# Altium schematic symbol library ARCOM_Inductors.SchLib: 129 symbols (part 1 of 2)
Pins are listed as number, name and electrical type; pins without a type are passive.

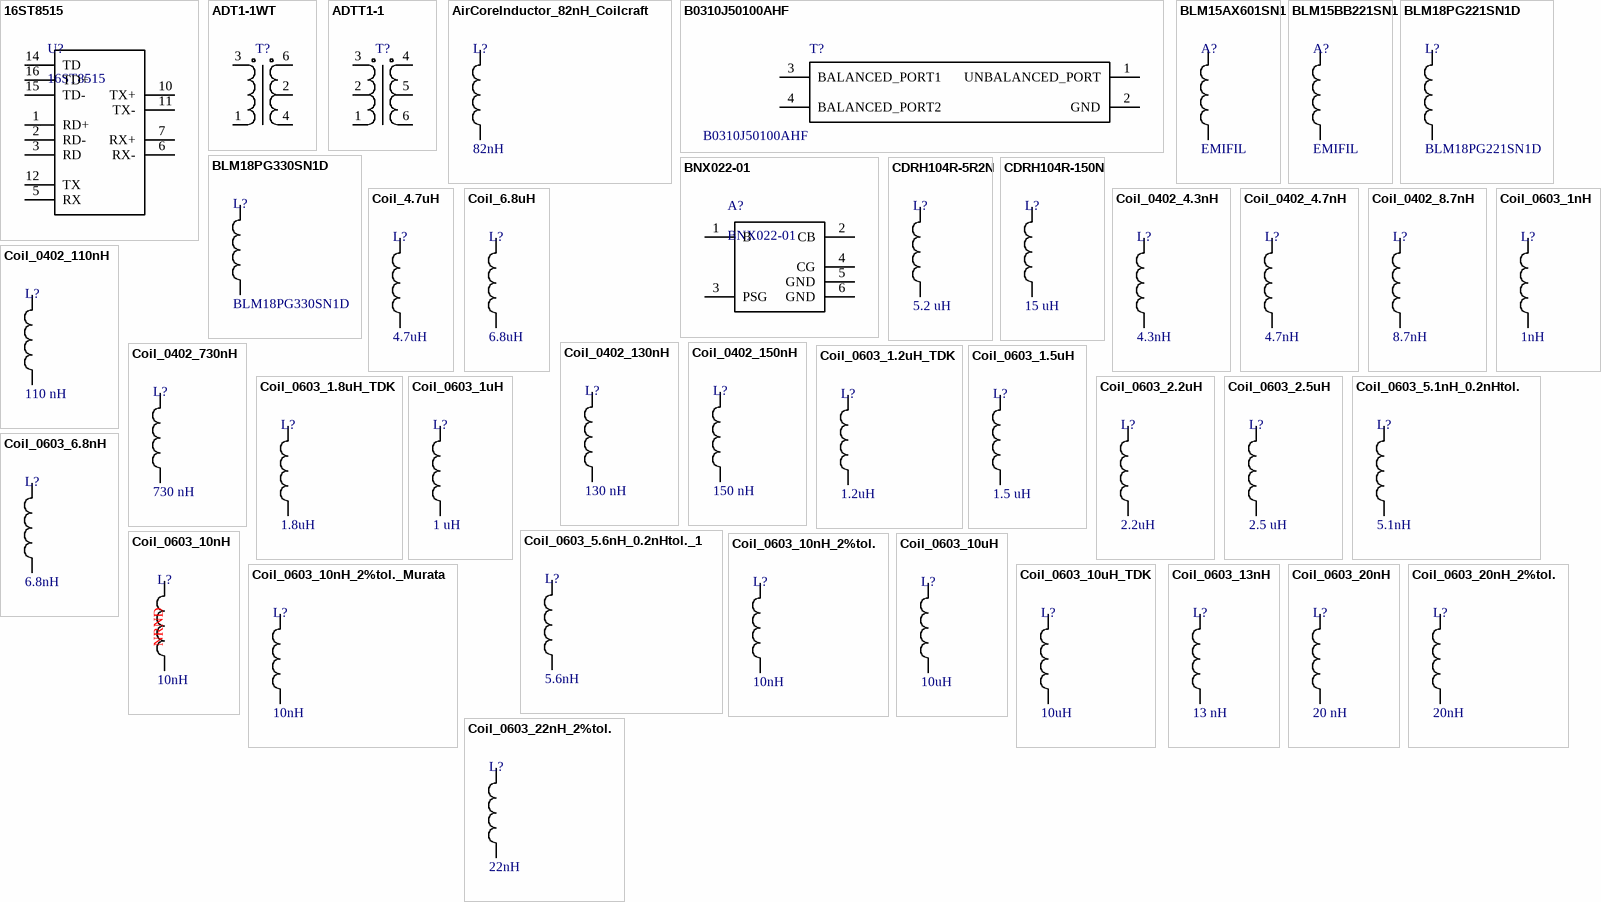
[diagram p0: symbols 16ST8515 to Coil_0603_22nH_2%tol.]

## 16ST8515
designator U?
10/100 Base Pulse Transformer; Manufacturer: Bothhand USA; Manufacturer P/N: 16ST8515-1 LF; ComponentLink1Description: Manufacturer; ComponentLink1URL: http://www.bothhandusa.com/; ComponentLink2Description: Datasheet; ComponentLink2URL: http://www.bothhandusa.com/datasheets/filter-transformer/10-100-single-smd/16ST8515-1%20LF(M)-RevA3-071106.pdf; Part: 16ST8515; Family: Inductors&Transformers
footprint 16ST8515 (SMD, 10-Leads, Body 13.5x14.0mm (max), Pitch 2.48mm, IPC Medium Density)
pins: 1 RD+, 2 RD-, 3 RD, 5 RX, 6 RX-, 7 RX+, 10 TX+, 11 TX-, 12 TX, 14 TD, 15 TD-, 16 TD+

## ADT1-1WT
designator T?  (value not drawn)
RF Transformer; Manufacturer: Mini-Circuits; ComponentLink1Description: Manufacturer; ComponentLink1URL: http://www.minicircuits.com; ComponentLink2Description: Datasheet; ComponentLink2URL: http://194.75.38.69/pdfs/ADT1-1WT.pdf; Manufacturer P/N: ADT1-1WT; Part: ADT1-1WT; Family: Inductors&Transformers
footprint ADT1-1WT
pins: 1, 2, 3, 4, 6

## ADTT1-1
designator T?  (value not drawn)
RF Transformer; Manufacturer: Mini-Circuits; ComponentLink1Description: Manufacturer; ComponentLink1URL: http://www.minicircuits.com; ComponentLink2Description: Datasheet; Manufacturer P/N: ADTT1-1; Part: ADTT1-1; Family: Inductors&Transformers
footprint ADTT1-1
pins: 1, 2, 3, 4, 5, 6

## AirCoreInductor_82nH_Coilcraft
designator L?  value 82nH  (hidden comment: AirCoreInductor_82nH_Coilcraft)
Air Core Inductor; Manufacturer P/N: 1515SQ-82NJTC; Part: 82 nH, 5%tol.; ComponentLink1Description: Manufacturer; ComponentLink2Description: Datasheet; Manufacturer: Coilcraft; Family: Inductors&Transformers
footprint 1515SQ
pins: 1, 2

## B0310J50100AHF
designator T?
Balun Transformer 6-Pin SMD T/R; Manufacturer: Anaren; Price: None; SnapEDA_Link: https://www.snapeda.com/parts/B0310J50100AHF/Anaren/view-part/?ref=snap; Availability: Unavailable; Manufacturer p/n: B0310J50100AHF; Package: 0805 Anaren Microwave; Value: *; ComponentLink1Description: *; ComponentLink1URL: *; ComponentLink2Description: *; ComponentLink2URL: *; Part: B0310J50100AHF; Family: Inductors&Transformers
footprint XFMR_B0310J50100AHF
pins: 1 UNBALANCED_PORT, 2 GND (power), 3 BALANCED_PORT1, 4 BALANCED_PORT2

## BLM15AX601SN1
designator A?  value EMIFIL  (hidden comment: BLM15AX601SN1)
EMIFIL (0402 size); Manufacturer: Murata; ComponentLink1Description: Manufacturer; ComponentLink1URL: http://www.murata.com; ComponentLink2Description: Datasheet; ComponentLink2URL: http://www.farnell.com/datasheets/1851889.pdf; Manufacturer P/N: BLM15AX601SN1; Part: BLM15AX601SN1; Family: Inductors&Transformers
footprint C0402_L (Chip Capacitor, Body 1.0x0.5mm, Height 0.6mm, IPC High Density)
footprint C0402_M (Chip Capacitor, Body 1.0x0.5mm, Height 0.6mm, IPC Low Density)
footprint C0402_N (Chip Capacitor, Body 1.0x0.5mm, Height 0.6mm, IPC Medium Density)
footprint C0402_L - Arcom (Chip Capacitor, Body 1.0x0.5mm, Height 0.6mm, IPC High Density)
pins: 1, 2

## BLM15BB221SN1
designator A?  value EMIFIL  (hidden comment: BLM15BB221SN1)
EMIFIL (0402 size); Manufacturer: Murata; ComponentLink1Description: Manufacturer; ComponentLink1URL: http://www.murata.com; ComponentLink2Description: Datasheet; Manufacturer P/N: BLM15BB221SN1; Part: BLM15BB221SN1; Family: Inductors&Transformers
footprint C0402_L (Chip Capacitor, Body 1.0x0.5mm, Height 0.6mm, IPC High Density)
footprint C0402_M (Chip Capacitor, Body 1.0x0.5mm, Height 0.6mm, IPC Low Density)
footprint C0402_N (Chip Capacitor, Body 1.0x0.5mm, Height 0.6mm, IPC Medium Density)
footprint C0402_L - Arcom (Chip Capacitor, Body 1.0x0.5mm, Height 0.6mm, IPC High Density)
pins: 1, 2

## BLM18PG221SN1D
designator L?
EMI Filter 0603; Manufacturer: Murata; Value: 220 Ohm, 25%tol.; ComponentLink1Description: Manufacturer; ComponentLink2Description: Datasheet; ComponentLink2URL: http://www.mouser.com/ds/2/281/c31e-794748.pdf; Manufacturer P/N: BLM18PG221SN1D; Family: Inductors&Transformers; Part: BLM18PG221SN1D
footprint RESC0603(1608)_L (Chip Resistor, Body 1.6x0.8mm, IPC High Density)
footprint RESC0603(1608)_M (Chip Resistor, Body 1.6x0.8mm, IPC Low Density)
footprint RESC0603(1608)_N (Chip Resistor, Body 1.6x0.8mm, IPC Medium Density)
pins: 1, 2

## BLM18PG330SN1D
designator L?
EMI Filter 0603; Manufacturer: Murata; Value: 33 Ohm @ 100 MHz, 25mOmh @ DC, 25%tol.; ComponentLink1Description: Manufacturer; ComponentLink2Description: Datasheet; ComponentLink2URL: http://www.mouser.com/ds/2/281/c31e-794748.pdf; Manufacturer P/N: BLM18PG330SN1D; Family: Inductors&Transformers; Part: BLM18PG330SN1D
footprint RESC0603(1608)_L (Chip Resistor, Body 1.6x0.8mm, IPC High Density)
footprint RESC0603(1608)_M (Chip Resistor, Body 1.6x0.8mm, IPC Low Density)
footprint RESC0603(1608)_N (Chip Resistor, Body 1.6x0.8mm, IPC Medium Density)
pins: 1, 2

## BNX022-01
designator A?
EMI Filter Circuits; Manufacturer: Murata; ComponentLink1Description: *; ComponentLink1URL: *; ComponentLink2Description: *; ComponentLink2URL: *; Family: Inductors&Transformers; Manufacturer P/N: BNX022-01; Part: BNX022-01
footprint Murata_BNX; pin to pad 5>4 6>4
pins: 1 B, 2 CB, 3 PSG, 4 CG, 5 GND, 6 GND

## CDRH104R-5R2N
designator L?  value 5.2 uH  (hidden comment: CDRH104R-5R2N)
2520LS series Chip Inductor; Manufacturer: SUMIDA Corporation; Part: 5.2 uH, 30%tol.; ComponentLink1Description: Manufacturer; ComponentLink2Description: Datasheet; Manufacturer P/N: CDRH104R-5R2N; Family: Inductors&Transformers
footprint CDRH104R
pins: 1, 2

## CDRH104R-150N
designator L?  value 15 uH  (hidden comment: CDRH104R-150N)
2520LS series Chip Inductor; Manufacturer: SUMIDA Corporation; Part: 15 uH, 30%tol.; ComponentLink1Description: Manufacturer; ComponentLink2Description: Datasheet; Manufacturer P/N: CDRH104R-150N; Family: Inductors&Transformers
footprint CDRH104R
pins: 1, 2

## Coil_4.7uH
designator L?  value 4.7uH  (hidden comment: Coil_4.7uH)
Chip Inductor; Manufacturer: Vishay; Manufacturer P/N: IHLP2525CZER4R7M01; Part: 4.7uH, 20%tol.; ComponentLink1Description: Manufacturer; ComponentLink1URL: http://www.vishay.com; ComponentLink2Description: Datasheet; ComponentLink2URL: http://www.vishay.com/docs/34104/lp25cz01.pdf; Family: Inductors&Transformers
footprint IHLP2525
pins: 1, 2

## Coil_6.8uH
designator L?  value 6.8uH  (hidden comment: Coil_6.8uH)
Chip Inductor; Manufacturer: Vishay; Manufacturer P/N: IHLP2525CZER6R8M01; Part: 6.8uH, 20%tol.; ComponentLink1Description: Manufacturer; ComponentLink1URL: http://www.vishay.com; ComponentLink2Description: Datasheet; ComponentLink2URL: http://www.vishay.com/docs/34104/lp25cz01.pdf; Family: Inductors&Transformers
footprint IHLP2525
pins: 1, 2

## Coil_0402_4.3nH
designator L?  value 4.3nH  (hidden comment: Coil_0402_4.3nH)
0402HP series Chip Inductor; Manufacturer: Coilcraft Inc.; Manufacturer P/N: 0402HP-4N3XGLW; Part: 4.3 nH, 2%tol.; ComponentLink1Description: Manufacturer; ComponentLink1URL: http://www.coilcraft.com; ComponentLink2Description: Datasheet; ComponentLink2URL: http://www.coilcraft.com/pdfs/0603hp.pdf; Family: Inductors&Transformers
footprint RESC0402(1005)_L (Chip Resistor, Body 1.0x0.5mm, IPC High Density)
footprint RESC0402(1005)_M (Chip Resistor, Body 1.0x0.5mm, IPC Low Density)
footprint RESC0402(1005)_N (Chip Resistor, Body 1.0x0.5mm, IPC Medium Density)
pins: 1, 2

## Coil_0402_4.7nH
designator L?  value 4.7nH  (hidden comment: Coil_0402_4.7nH)
0402HP series Chip Inductor; Manufacturer: Coilcraft Inc.; Manufacturer P/N: 0402HP-4N7XGLW; Part: 4.7 nH, 2%tol.; ComponentLink1Description: Manufacturer; ComponentLink1URL: http://www.coilcraft.com; ComponentLink2Description: Datasheet; ComponentLink2URL: http://www.coilcraft.com/pdfs/0603hp.pdf; Family: Inductors&Transformers
footprint RESC0402(1005)_L (Chip Resistor, Body 1.0x0.5mm, IPC High Density)
footprint RESC0402(1005)_M (Chip Resistor, Body 1.0x0.5mm, IPC Low Density)
footprint RESC0402(1005)_N (Chip Resistor, Body 1.0x0.5mm, IPC Medium Density)
pins: 1, 2

## Coil_0402_8.7nH
designator L?  value 8.7nH  (hidden comment: Coil_0402_8.7nH)
0402HP series Chip Inductor; Manufacturer: Coilcraft Inc.; Manufacturer P/N: 0402HP-8N7XGLW; Part: 8.7 nH, 2%tol.; ComponentLink1Description: Manufacturer; ComponentLink1URL: http://www.coilcraft.com; ComponentLink2Description: Datasheet; ComponentLink2URL: http://www.coilcraft.com/pdfs/0603hp.pdf; Family: Inductors&Transformers
footprint RESC0402(1005)_L (Chip Resistor, Body 1.0x0.5mm, IPC High Density)
footprint RESC0402(1005)_M (Chip Resistor, Body 1.0x0.5mm, IPC Low Density)
footprint RESC0402(1005)_N (Chip Resistor, Body 1.0x0.5mm, IPC Medium Density)
pins: 1, 2

## Coil_0402_110nH
designator L?  value 110 nH  (hidden comment: Coil_0402_110nH)
0402 LQW series Chip Inductor; Manufacturer: Murata; Manufacturer P/N: LQW15CAR11J00D; Part: 110 nH, 5%tol.; ComponentLink1Description: Manufacturer; ComponentLink2Description: Datasheet; Family: Inductors&Transformers
footprint RESC0402(1005)_L (Chip Resistor, Body 1.0x0.5mm, IPC High Density)
footprint RESC0402(1005)_M (Chip Resistor, Body 1.0x0.5mm, IPC Low Density)
footprint RESC0402(1005)_N (Chip Resistor, Body 1.0x0.5mm, IPC Medium Density)
pins: 1, 2

## Coil_0402_130nH
designator L?  value 130 nH  (hidden comment: Coil_0402_130nH)
0402 LQW series Chip Inductor; Manufacturer: Murata; Manufacturer P/N: LQW15CNR13J00D; Part: 130 nH, 5%tol.; ComponentLink1Description: Manufacturer; ComponentLink2Description: Datasheet; Family: Inductors&Transformers
footprint RESC0402(1005)_L (Chip Resistor, Body 1.0x0.5mm, IPC High Density)
footprint RESC0402(1005)_M (Chip Resistor, Body 1.0x0.5mm, IPC Low Density)
footprint RESC0402(1005)_N (Chip Resistor, Body 1.0x0.5mm, IPC Medium Density)
pins: 1, 2

## Coil_0402_150nH
designator L?  value 150 nH  (hidden comment: Coil_0402_150nH)
0402 LQG series Chip Inductor; Manufacturer: Murata; Manufacturer P/N: LQG15HSR15J02D; Part: 150 nH, 5%tol.; ComponentLink1Description: Manufacturer; ComponentLink2Description: Datasheet; Family: Inductors&Transformers
footprint RESC0402(1005)_L (Chip Resistor, Body 1.0x0.5mm, IPC High Density)
footprint RESC0402(1005)_M (Chip Resistor, Body 1.0x0.5mm, IPC Low Density)
footprint RESC0402(1005)_N (Chip Resistor, Body 1.0x0.5mm, IPC Medium Density)
pins: 1, 2

## Coil_0402_730nH
designator L?  value 730 nH  (hidden comment: Coil_0402_730nH)
0402 LQW series Chip Inductor; Manufacturer: Murata; Manufacturer P/N: LQW15CAR73J00D; Part: 730 nH, 5%tol.; ComponentLink1Description: Manufacturer; ComponentLink2Description: Datasheet; Family: Inductors&Transformers
footprint RESC0402(1005)_L (Chip Resistor, Body 1.0x0.5mm, IPC High Density)
footprint RESC0402(1005)_M (Chip Resistor, Body 1.0x0.5mm, IPC Low Density)
footprint RESC0402(1005)_N (Chip Resistor, Body 1.0x0.5mm, IPC Medium Density)
pins: 1, 2

## Coil_0603_1.2uH_TDK
designator L?, comment value 1.2uH  (hidden comment: Coil_0603_1.2uH)
MLF1608 Chip Inductor; Manufacturer: TDK; Manufacturer P/N: MLF1608A1R2KTD25; Part: 1.2 uH, 10%tol.; ComponentLink1Description: Manufacturer; ComponentLink2Description: Datasheet; Family: Inductors&Transformers
footprint RESC0603(1608)_L (Chip Resistor, Body 1.6x0.8mm, IPC High Density)
footprint RESC0603(1608)_M (Chip Resistor, Body 1.6x0.8mm, IPC Low Density)
footprint RESC0603(1608)_N (Chip Resistor, Body 1.6x0.8mm, IPC Medium Density)
pins: 1, 2

## Coil_0603_1.5uH
designator L?  value 1.5 uH  (hidden comment: Coil_0603_1.5uH)
0603HL series Chip Inductor; Manufacturer: Coilcraft Inc.; Manufacturer P/N: 0603HL-152XJRB; Part: 1.5 uH, 5%tol.; ComponentLink1Description: Manufacturer; ComponentLink1URL: http://www.coilcraft.com; ComponentLink2Description: Datasheet; Family: Inductors&Transformers
footprint RESC0603(1608)_L (Chip Resistor, Body 1.6x0.8mm, IPC High Density)
footprint RESC0603(1608)_M (Chip Resistor, Body 1.6x0.8mm, IPC Low Density)
footprint RESC0603(1608)_N (Chip Resistor, Body 1.6x0.8mm, IPC Medium Density)
pins: 1, 2

## Coil_0603_1.8uH_TDK
designator L?, comment value 1.8uH  (hidden comment: Coil_0603_1.8uH)
MLF1608 Chip Inductor; Manufacturer: TDK; Manufacturer P/N: MLF1608A1R8JT000; Part: 1.8 uH, 5%tol.; ComponentLink1Description: Manufacturer; ComponentLink2Description: Datasheet; Family: Inductors&Transformers
footprint RESC0603(1608)_L (Chip Resistor, Body 1.6x0.8mm, IPC High Density)
footprint RESC0603(1608)_M (Chip Resistor, Body 1.6x0.8mm, IPC Low Density)
footprint RESC0603(1608)_N (Chip Resistor, Body 1.6x0.8mm, IPC Medium Density)
pins: 1, 2

## Coil_0603_1nH
designator L?  value 1nH  (hidden comment: Coil_0603_1nH)
0603CT series Chip Inductor; Manufacturer: Coilcraft Inc.; Manufacturer P/N: 0603CT-1N0XJRW; Part: 1 nH, 5%tol.; ComponentLink1Description: Manufacturer; ComponentLink1URL: http://www.coilcraft.com; ComponentLink2Description: Datasheet; ComponentLink2URL: http://www.coilcraft.com/pdfs/0603hp.pdf; Family: Inductors&Transformers
footprint RESC0603(1608)_L (Chip Resistor, Body 1.6x0.8mm, IPC High Density)
footprint RESC0603(1608)_M (Chip Resistor, Body 1.6x0.8mm, IPC Low Density)
footprint RESC0603(1608)_N (Chip Resistor, Body 1.6x0.8mm, IPC Medium Density)
pins: 1, 2

## Coil_0603_1uH
designator L?  value 1 uH  (hidden comment: Coil_0603_1uH)
LQM series Chip Inductor (Multilayer type Inductor for Power Lines for Automotive); Manufacturer: Murata; Manufacturer P/N: LQM18PZ1R0MCHD; Part: 1 uH, 20% tol.; ComponentLink1Description: Manufacturer; ComponentLink1URL: http://www.murata.com/; ComponentLink2Description: Datasheet; Family: Inductors&Transformers
footprint RESC0603(1608)_L (Chip Resistor, Body 1.6x0.8mm, IPC High Density)
footprint RESC0603(1608)_M (Chip Resistor, Body 1.6x0.8mm, IPC Low Density)
footprint RESC0603(1608)_N (Chip Resistor, Body 1.6x0.8mm, IPC Medium Density)
pins: 1, 2

## Coil_0603_2.2uH
designator L?  value 2.2uH  (hidden comment: Coil_0603_2.2uH)
CS160808 series Chip Inductor; Manufacturer: Coilcraft Inc.; Manufacturer P/N: CS160808-2R2K; Part: 2.2 uH, 10%tol.; ComponentLink1Description: Manufacturer; ComponentLink1URL: http://www.coilcraft.com; ComponentLink2Description: Datasheet; Family: Inductors&Transformers
footprint RESC0603(1608)_L (Chip Resistor, Body 1.6x0.8mm, IPC High Density)
footprint RESC0603(1608)_M (Chip Resistor, Body 1.6x0.8mm, IPC Low Density)
footprint RESC0603(1608)_N (Chip Resistor, Body 1.6x0.8mm, IPC Medium Density)
pins: 1, 2

## Coil_0603_2.5uH
designator L?  value 2.5 uH  (hidden comment: Coil_0603_2.5uH)
LQM series Chip Inductor; Manufacturer: Murata; Manufacturer P/N: LQM18PZ2R5NCHD; Part: 2.5 uH, 30% tol.; ComponentLink1Description: Manufacturer; ComponentLink1URL: http://www.murata.com/; ComponentLink2Description: Datasheet; Family: Inductors&Transformers
footprint RESC0603(1608)_L (Chip Resistor, Body 1.6x0.8mm, IPC High Density)
footprint RESC0603(1608)_M (Chip Resistor, Body 1.6x0.8mm, IPC Low Density)
footprint RESC0603(1608)_N (Chip Resistor, Body 1.6x0.8mm, IPC Medium Density)
pins: 1, 2

## Coil_0603_5.1nH_0.2nHtol.
designator L?, comment value 5.1nH  (hidden comment: Coil_0603_5.1nH)
0603 series Chip Inductor 0.2nH tol.; Manufacturer: Johanson; Manufacturer P/N: L-14W5N1CV4E; Part: 5.1 nH, 0.2nHtol.; ComponentLink1Description: Manufacturer; ComponentLink1URL: http://www.johansontechnology.com; ComponentLink2Description: Datasheet; Family: Inductors&Transformers
footprint RESC0603(1608)_L (Chip Resistor, Body 1.6x0.8mm, IPC High Density)
footprint RESC0603(1608)_M (Chip Resistor, Body 1.6x0.8mm, IPC Low Density)
footprint RESC0603(1608)_N (Chip Resistor, Body 1.6x0.8mm, IPC Medium Density)
pins: 1, 2

## Coil_0603_5.6nH_0.2nHtol._1
designator L?, comment value 5.6nH  (hidden comment: Coil_0603_5.6nH)
0603 series Chip Inductor 0.2nH tol.; Manufacturer: Johanson; Manufacturer P/N: L-14W5N6CV4E; Part: 5.6 nH, 0.2nHtol.; ComponentLink1Description: Manufacturer; ComponentLink1URL: http://www.johansontechnology.com; ComponentLink2Description: Datasheet; Family: Inductors&Transformers
footprint RESC0603(1608)_L (Chip Resistor, Body 1.6x0.8mm, IPC High Density)
footprint RESC0603(1608)_M (Chip Resistor, Body 1.6x0.8mm, IPC Low Density)
footprint RESC0603(1608)_N (Chip Resistor, Body 1.6x0.8mm, IPC Medium Density)
pins: 1, 2

## Coil_0603_6.8nH
designator L?  value 6.8nH  (hidden comment: Coil_0603_6.8nH)
0603HP series Chip Inductor; Manufacturer: Coilcraft Inc.; Manufacturer P/N: 0603HP-6N8XGL; Part: 6.8 nH, 2%tol.; ComponentLink1Description: Manufacturer; ComponentLink1URL: http://www.coilcraft.com; ComponentLink2Description: Datasheet; ComponentLink2URL: http://www.coilcraft.com/pdfs/0603hp.pdf; Family: Inductors&Transformers
footprint RESC0603(1608)_L (Chip Resistor, Body 1.6x0.8mm, IPC High Density)
footprint RESC0603(1608)_M (Chip Resistor, Body 1.6x0.8mm, IPC Low Density)
footprint RESC0603(1608)_N (Chip Resistor, Body 1.6x0.8mm, IPC Medium Density)
pins: 1, 2

## Coil_0603_10nH
designator L?  value 10nH  (hidden comment: Coil_0603_10nH)
Obsolete!; Manufacturer: Coilcraft Inc.; Manufacturer P/N: 0603CS-10NXGL; Part: 10 nH, 2%tol.; ComponentLink1Description: Manufacturer; ComponentLink1URL: http://www.coilcraft.com; ComponentLink2Description: Datasheet; ComponentLink2URL: http://www.coilcraft.com/pdfs/0603cs.pdf; Family: Inductors&Transformers; Lifecycle: NRND
footprint RESC0603(1608)_L (Chip Resistor, Body 1.6x0.8mm, IPC High Density)
footprint RESC0603(1608)_M (Chip Resistor, Body 1.6x0.8mm, IPC Low Density)
footprint RESC0603(1608)_N (Chip Resistor, Body 1.6x0.8mm, IPC Medium Density)
pins: 1, 2

## Coil_0603_10nH_2%tol.
designator L?, comment value 10nH  (hidden comment: Coil_0603_10nH)
0603 series Chip Inductor 2% tol.; Manufacturer: Johanson; Manufacturer P/N: L-14W10NGV4E; Part: 10 nH, 2% tol.; ComponentLink1Description: Manufacturer; ComponentLink1URL: http://www.johansontechnology.com; ComponentLink2Description: Datasheet; Family: Inductors&Transformers; Lifecycle: Active
footprint RESC0603(1608)_L (Chip Resistor, Body 1.6x0.8mm, IPC High Density)
footprint RESC0603(1608)_M (Chip Resistor, Body 1.6x0.8mm, IPC Low Density)
footprint RESC0603(1608)_N (Chip Resistor, Body 1.6x0.8mm, IPC Medium Density)
pins: 1, 2

## Coil_0603_10nH_2%tol._Murata
designator L?, comment value 10nH  (hidden comment: Coil_0603_10nH)
0603 series Chip Inductor 2% tol.; Manufacturer: Murata; Manufacturer P/N: LQW18AN10NG00D; Part: 10 nH, 2% tol.; ComponentLink1Description: Manufacturer; ComponentLink1URL: https://www.murata.com/en-eu/; ComponentLink2Description: Datasheet; ComponentLink2URL: https://eu.mouser.com/datasheet/2/281/JELF243A_0024-1380895.pdf; Family: Inductors&Transformers; Lifecycle: Active
footprint RESC0603(1608)_L (Chip Resistor, Body 1.6x0.8mm, IPC High Density)
footprint RESC0603(1608)_M (Chip Resistor, Body 1.6x0.8mm, IPC Low Density)
footprint RESC0603(1608)_N (Chip Resistor, Body 1.6x0.8mm, IPC Medium Density)
pins: 1, 2

## Coil_0603_10uH
designator L?  value 10uH  (hidden comment: Coil_0603_10uH)
0603LS series Chip Inductor; Manufacturer: Coilcraft Inc.; Manufacturer P/N: 0603LS-103XJL; Part: 10 uH, 5%tol.; ComponentLink1Description: Manufacturer; ComponentLink1URL: http://www.coilcraft.com; ComponentLink2Description: Datasheet; ComponentLink2URL: http://www.coilcraft.com/pdfs/0603hp.pdf; Family: Inductors&Transformers
footprint RESC0603(1608)_L (Chip Resistor, Body 1.6x0.8mm, IPC High Density)
footprint RESC0603(1608)_M (Chip Resistor, Body 1.6x0.8mm, IPC Low Density)
footprint RESC0603(1608)_N (Chip Resistor, Body 1.6x0.8mm, IPC Medium Density)
pins: 1, 2

## Coil_0603_10uH_TDK
designator L?, comment value 10uH  (hidden comment: Coil_0603_10uH)
MLZ1608 Chip Inductor; Manufacturer: TDK; Manufacturer P/N: MLZ1608E100MT; Part: 10 uH, 20%tol.; ComponentLink1Description: Manufacturer; ComponentLink2Description: Datasheet; Family: Inductors&Transformers
footprint RESC0603(1608)_L (Chip Resistor, Body 1.6x0.8mm, IPC High Density)
footprint RESC0603(1608)_M (Chip Resistor, Body 1.6x0.8mm, IPC Low Density)
footprint RESC0603(1608)_N (Chip Resistor, Body 1.6x0.8mm, IPC Medium Density)
pins: 1, 2

## Coil_0603_13nH
designator L?  value 13 nH  (hidden comment: Coil_0603_13nH)
LQW_N series Chip Inductor; Manufacturer: Murata; Manufacturer P/N: LQW18AN13NG80D; Part: 13nH, 2% tol.; ComponentLink1Description: Manufacturer; ComponentLink1URL: http://www.murata.com/; ComponentLink2Description: Datasheet; ComponentLink2URL: http://www.mouser.com/ds/2/281/o05e-522697.pdf; Family: Inductors&Transformers
footprint RESC0603(1608)_L (Chip Resistor, Body 1.6x0.8mm, IPC High Density)
footprint RESC0603(1608)_M (Chip Resistor, Body 1.6x0.8mm, IPC Low Density)
footprint RESC0603(1608)_N (Chip Resistor, Body 1.6x0.8mm, IPC Medium Density)
pins: 1, 2

## Coil_0603_20nH
designator L?  value 20 nH  (hidden comment: Coil_0603_20nH)
LQW_N series Chip Inductor; Manufacturer: Murata; Manufacturer P/N: LQW18AN20NG00D; Part: 20nH, 2% tol.; ComponentLink1Description: Manufacturer; ComponentLink1URL: http://www.murata.com/; ComponentLink2Description: Datasheet; ComponentLink2URL: http://www.mouser.com/ds/2/281/o05e-522697.pdf; Family: Inductors&Transformers
footprint RESC0603(1608)_L (Chip Resistor, Body 1.6x0.8mm, IPC High Density)
footprint RESC0603(1608)_M (Chip Resistor, Body 1.6x0.8mm, IPC Low Density)
footprint RESC0603(1608)_N (Chip Resistor, Body 1.6x0.8mm, IPC Medium Density)
pins: 1, 2

## Coil_0603_20nH_2%tol.
designator L?, comment value 20nH  (hidden comment: Coil_0603_20nH)
0603 series Chip Inductor 2% tol.; Manufacturer: Johanson; Manufacturer P/N: L-14W20NGV4E; Part: 20 nH, 2% tol.; ComponentLink1Description: Manufacturer; ComponentLink1URL: http://www.johansontechnology.com; ComponentLink2Description: Datasheet; Family: Inductors&Transformers
footprint RESC0603(1608)_L (Chip Resistor, Body 1.6x0.8mm, IPC High Density)
footprint RESC0603(1608)_M (Chip Resistor, Body 1.6x0.8mm, IPC Low Density)
footprint RESC0603(1608)_N (Chip Resistor, Body 1.6x0.8mm, IPC Medium Density)
pins: 1, 2

## Coil_0603_22nH_2%tol.
designator L?, comment value 22nH  (hidden comment: Coil_0603_22nH)
0603 series Chip Inductor 2% tol.; Manufacturer: Johanson; Manufacturer P/N: L-14W22NGV4E; Part: 22 nH, 2% tol.; ComponentLink1Description: Manufacturer; ComponentLink1URL: http://www.johansontechnology.com; ComponentLink2Description: Datasheet; Family: Inductors&Transformers
footprint RESC0603(1608)_L (Chip Resistor, Body 1.6x0.8mm, IPC High Density)
footprint RESC0603(1608)_M (Chip Resistor, Body 1.6x0.8mm, IPC Low Density)
footprint RESC0603(1608)_N (Chip Resistor, Body 1.6x0.8mm, IPC Medium Density)
pins: 1, 2

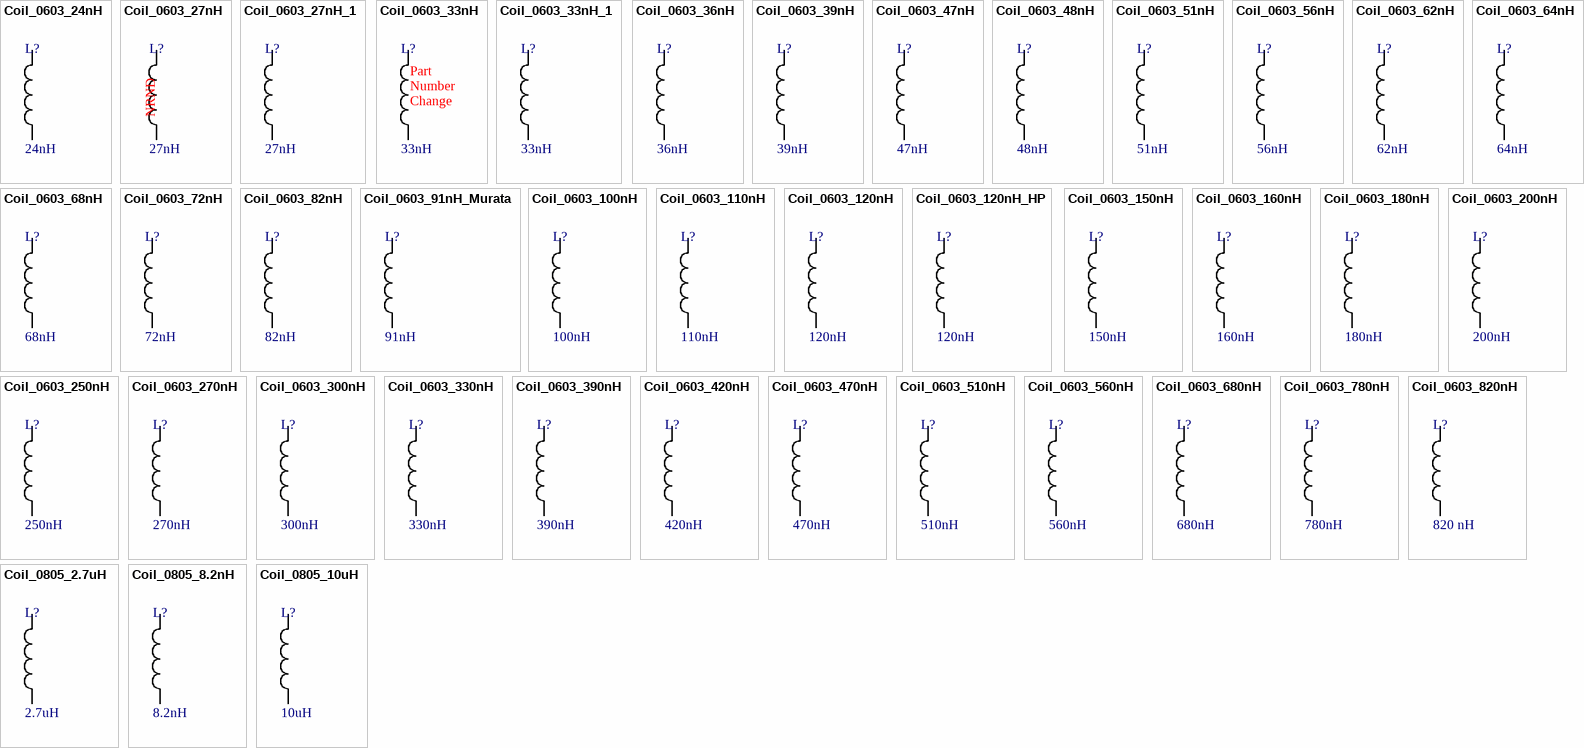
[diagram p1: symbols Coil_0603_24nH to Coil_0805_10uH]

## Coil_0603_24nH
designator L?  value 24nH  (hidden comment: Coil_0603_24nH)
0603CT series Chip Inductor; Manufacturer: Coilcraft Inc.; Manufacturer P/N: 0603CT-24NXGRU; Part: 24 nH, 2%tol.; ComponentLink1Description: Manufacturer; ComponentLink1URL: http://www.coilcraft.com; ComponentLink2Description: Datasheet; ComponentLink2URL: http://www.coilcraft.com/pdfs/0603cs.pdf; Family: Inductors&Transformers
footprint RESC0603(1608)_L (Chip Resistor, Body 1.6x0.8mm, IPC High Density)
footprint RESC0603(1608)_M (Chip Resistor, Body 1.6x0.8mm, IPC Low Density)
footprint RESC0603(1608)_N (Chip Resistor, Body 1.6x0.8mm, IPC Medium Density)
pins: 1, 2

## Coil_0603_27nH
designator L?  value 27nH  (hidden comment: Coil_0603_27nH)
0603HP series Chip Inductor; Manufacturer: Coilcraft Inc.; Manufacturer P/N: 0603HP-27NXGL; Part: 27 nH, 2%tol.; ComponentLink1Description: Manufacturer; ComponentLink1URL: http://www.coilcraft.com; ComponentLink2Description: Datasheet; ComponentLink2URL: http://www.coilcraft.com/pdfs/0603hp.pdf; Family: Inductors&Transformers
footprint RESC0603(1608)_L (Chip Resistor, Body 1.6x0.8mm, IPC High Density)
footprint RESC0603(1608)_M (Chip Resistor, Body 1.6x0.8mm, IPC Low Density)
footprint RESC0603(1608)_N (Chip Resistor, Body 1.6x0.8mm, IPC Medium Density)
pins: 1, 2
text: NRND

## Coil_0603_27nH_1
designator L?, comment value 27nH  (hidden comment: Coil_0603_27nH)
Murata LQW18 series; Manufacturer P/N: LQW18AN27NG10D; Part: 27 nH, 2%tol.; ComponentLink1Description: Manufacturer; ComponentLink2Description: Datasheet; Manufacturer: Murata; Family: Inductors&Transformers
footprint RESC0603(1608)_L (Chip Resistor, Body 1.6x0.8mm, IPC High Density)
footprint RESC0603(1608)_M (Chip Resistor, Body 1.6x0.8mm, IPC Low Density)
footprint RESC0603(1608)_N (Chip Resistor, Body 1.6x0.8mm, IPC Medium Density)
pins: 1, 2

## Coil_0603_33nH
designator L?  value 33nH  (hidden comment: Coil_0603_33nH)
0603HP series Chip Inductor; Manufacturer: Coilcraft Inc.; Manufacturer P/N: 0603HP-33NXJLU; Part: 33 nH, 5%tol.; ComponentLink1Description: Manufacturer; ComponentLink1URL: http://www.coilcraft.com; ComponentLink2Description: Datasheet; ComponentLink2URL: http://www.coilcraft.com/pdfs/0603cs.pdf; Family: Inductors&Transformers
footprint RESC0603(1608)_L (Chip Resistor, Body 1.6x0.8mm, IPC High Density)
footprint RESC0603(1608)_M (Chip Resistor, Body 1.6x0.8mm, IPC Low Density)
footprint RESC0603(1608)_N (Chip Resistor, Body 1.6x0.8mm, IPC Medium Density)
pins: 1, 2
text: Part; Number; Change

## Coil_0603_33nH_1
designator L?, comment value 33nH  (hidden comment: Coil_0603_33nH)
Murata LQW18 series; Manufacturer P/N: LQW18CN33J0HD; Part: 33 nH, 5%tol.; ComponentLink1Description: Manufacturer; ComponentLink2Description: Datasheet; Manufacturer: Murata; Family: Inductors&Transformers
footprint RESC0603(1608)_L (Chip Resistor, Body 1.6x0.8mm, IPC High Density)
footprint RESC0603(1608)_M (Chip Resistor, Body 1.6x0.8mm, IPC Low Density)
footprint RESC0603(1608)_N (Chip Resistor, Body 1.6x0.8mm, IPC Medium Density)
pins: 1, 2

## Coil_0603_36nH
designator L?  value 36nH  (hidden comment: Coil_0603_36nH)
0603CS series Chip Inductor; Manufacturer: Coilcraft Inc.; Manufacturer P/N: 0603CS-36NXGL; Part: 36 nH, 2%tol.; ComponentLink1Description: Manufacturer; ComponentLink1URL: http://www.coilcraft.com; ComponentLink2Description: Datasheet; ComponentLink2URL: http://www.coilcraft.com/pdfs/0603cs.pdf; Family: Inductors&Transformers
footprint RESC0603(1608)_L (Chip Resistor, Body 1.6x0.8mm, IPC High Density)
footprint RESC0603(1608)_M (Chip Resistor, Body 1.6x0.8mm, IPC Low Density)
footprint RESC0603(1608)_N (Chip Resistor, Body 1.6x0.8mm, IPC Medium Density)
pins: 1, 2

## Coil_0603_39nH
designator L?  value 39nH  (hidden comment: Coil_0603_39nH)
0603CS series Chip Inductor; Manufacturer: Coilcraft Inc.; Manufacturer P/N: 0603CS-39NXGL; Part: 39 nH, 2%tol.; ComponentLink1Description: Manufacturer; ComponentLink1URL: http://www.coilcraft.com; ComponentLink2Description: Datasheet; ComponentLink2URL: http://www.coilcraft.com/pdfs/0603cs.pdf; Family: Inductors&Transformers
footprint RESC0603(1608)_L (Chip Resistor, Body 1.6x0.8mm, IPC High Density)
footprint RESC0603(1608)_M (Chip Resistor, Body 1.6x0.8mm, IPC Low Density)
footprint RESC0603(1608)_N (Chip Resistor, Body 1.6x0.8mm, IPC Medium Density)
pins: 1, 2

## Coil_0603_47nH
designator L?  value 47nH  (hidden comment: Coil_0603_47nH)
0603HP series Chip Inductor; Manufacturer: Coilcraft Inc.; Manufacturer P/N: 0603HP-47NXGL; Part: 47 nH, 2%tol.; ComponentLink1Description: Manufacturer; ComponentLink1URL: http://www.coilcraft.com; ComponentLink2Description: Datasheet; ComponentLink2URL: http://www.coilcraft.com/pdfs/0603cs.pdf; Family: Inductors&Transformers
footprint RESC0603(1608)_L (Chip Resistor, Body 1.6x0.8mm, IPC High Density)
footprint RESC0603(1608)_M (Chip Resistor, Body 1.6x0.8mm, IPC Low Density)
footprint RESC0603(1608)_N (Chip Resistor, Body 1.6x0.8mm, IPC Medium Density)
pins: 1, 2

## Coil_0603_48nH
designator L?  value 48nH  (hidden comment: Coil_0603_48nH)
0603HP series Chip Inductor; Manufacturer: Coilcraft Inc.; Manufacturer P/N: 0603HP-48NXGL; Part: 48 nH, 2%tol.; ComponentLink1Description: Manufacturer; ComponentLink1URL: http://www.coilcraft.com; ComponentLink2Description: Datasheet; ComponentLink2URL: http://www.coilcraft.com/pdfs/0603cs.pdf; Family: Inductors&Transformers
footprint RESC0603(1608)_L (Chip Resistor, Body 1.6x0.8mm, IPC High Density)
footprint RESC0603(1608)_M (Chip Resistor, Body 1.6x0.8mm, IPC Low Density)
footprint RESC0603(1608)_N (Chip Resistor, Body 1.6x0.8mm, IPC Medium Density)
pins: 1, 2

## Coil_0603_51nH
designator L?  value 51nH  (hidden comment: Coil_0603_51nH)
0603HP series Chip Inductor; Manufacturer: Coilcraft Inc.; Manufacturer P/N: 0603HP-51NXGL; Part: 51 nH, 2%tol.; ComponentLink1Description: Manufacturer; ComponentLink1URL: http://www.coilcraft.com; ComponentLink2Description: Datasheet; ComponentLink2URL: http://www.coilcraft.com/pdfs/0603cs.pdf; Family: Inductors&Transformers
footprint RESC0603(1608)_L (Chip Resistor, Body 1.6x0.8mm, IPC High Density)
footprint RESC0603(1608)_M (Chip Resistor, Body 1.6x0.8mm, IPC Low Density)
footprint RESC0603(1608)_N (Chip Resistor, Body 1.6x0.8mm, IPC Medium Density)
pins: 1, 2

## Coil_0603_56nH
designator L?  value 56nH  (hidden comment: Coil_0603_56nH)
0603CS series Chip Inductor; Manufacturer: Coilcraft Inc.; Manufacturer P/N: 0603CS-56NXGLW; Part: 56 nH, 2%tol.; ComponentLink1Description: Manufacturer; ComponentLink1URL: http://www.coilcraft.com; ComponentLink2Description: Datasheet; ComponentLink2URL: http://www.coilcraft.com/pdfs/0603cs.pdf; Family: Inductors&Transformers
footprint RESC0603(1608)_L (Chip Resistor, Body 1.6x0.8mm, IPC High Density)
footprint RESC0603(1608)_M (Chip Resistor, Body 1.6x0.8mm, IPC Low Density)
footprint RESC0603(1608)_N (Chip Resistor, Body 1.6x0.8mm, IPC Medium Density)
pins: 1, 2

## Coil_0603_62nH
designator L?  value 62nH  (hidden comment: Coil_0603_62nH)
LQW18 series Chip Inductor; Manufacturer: Murata; Manufacturer P/N: LQW18AN62NJ00D; Part: 62 nH, 5%tol.; ComponentLink1Description: Manufacturer; ComponentLink2Description: Datasheet; Family: Inductors&Transformers
footprint RESC0603(1608)_L (Chip Resistor, Body 1.6x0.8mm, IPC High Density)
footprint RESC0603(1608)_M (Chip Resistor, Body 1.6x0.8mm, IPC Low Density)
footprint RESC0603(1608)_N (Chip Resistor, Body 1.6x0.8mm, IPC Medium Density)
pins: 1, 2

## Coil_0603_64nH
designator L?  value 64nH  (hidden comment: Coil_0603_64nH)
0603CS series Chip Inductor; Manufacturer: Coilcraft Inc.; Manufacturer P/N: 0603CS-64NXJL; Part: 64 nH, 5%tol.; ComponentLink1Description: Manufacturer; ComponentLink1URL: http://www.coilcraft.com; ComponentLink2Description: Datasheet; ComponentLink2URL: http://www.coilcraft.com/pdfs/0603cs.pdf; Family: Inductors&Transformers
footprint RESC0603(1608)_L (Chip Resistor, Body 1.6x0.8mm, IPC High Density)
footprint RESC0603(1608)_M (Chip Resistor, Body 1.6x0.8mm, IPC Low Density)
footprint RESC0603(1608)_N (Chip Resistor, Body 1.6x0.8mm, IPC Medium Density)
pins: 1, 2

## Coil_0603_68nH
designator L?  value 68nH  (hidden comment: Coil_0603_68nH)
0603CS series Chip Inductor; Manufacturer: Coilcraft Inc.; Manufacturer P/N: 0603CS-68NXJL; Part: 68 nH, 5%tol.; ComponentLink1Description: Manufacturer; ComponentLink1URL: http://www.coilcraft.com; ComponentLink2Description: Datasheet; ComponentLink2URL: http://www.coilcraft.com/pdfs/0603cs.pdf; Family: Inductors&Transformers
footprint RESC0603(1608)_L (Chip Resistor, Body 1.6x0.8mm, IPC High Density)
footprint RESC0603(1608)_M (Chip Resistor, Body 1.6x0.8mm, IPC Low Density)
footprint RESC0603(1608)_N (Chip Resistor, Body 1.6x0.8mm, IPC Medium Density)
pins: 1, 2

## Coil_0603_72nH
designator L?  value 72nH  (hidden comment: Coil_0603_72nH)
0603CS series Chip Inductor; Manufacturer: Coilcraft Inc.; Manufacturer P/N: 0603CS-72NXJL; Part: 72 nH, 5%tol.; ComponentLink1Description: Manufacturer; ComponentLink1URL: http://www.coilcraft.com; ComponentLink2Description: Datasheet; ComponentLink2URL: http://www.coilcraft.com/pdfs/0603cs.pdf; Family: Inductors&Transformers
footprint RESC0603(1608)_L (Chip Resistor, Body 1.6x0.8mm, IPC High Density)
footprint RESC0603(1608)_M (Chip Resistor, Body 1.6x0.8mm, IPC Low Density)
footprint RESC0603(1608)_N (Chip Resistor, Body 1.6x0.8mm, IPC Medium Density)
pins: 1, 2

## Coil_0603_82nH
designator L?  value 82nH  (hidden comment: Coil_0603_82nH)
0603CS series Chip Inductor; Manufacturer: Coilcraft Inc.; Manufacturer P/N: 0603CS-82NXJL; Part: 82 nH, 5%tol.; ComponentLink1Description: Manufacturer; ComponentLink1URL: http://www.coilcraft.com; ComponentLink2Description: Datasheet; ComponentLink2URL: http://www.coilcraft.com/pdfs/0603cs.pdf; Family: Inductors&Transformers
footprint RESC0603(1608)_L (Chip Resistor, Body 1.6x0.8mm, IPC High Density)
footprint RESC0603(1608)_M (Chip Resistor, Body 1.6x0.8mm, IPC Low Density)
footprint RESC0603(1608)_N (Chip Resistor, Body 1.6x0.8mm, IPC Medium Density)
pins: 1, 2

## Coil_0603_91nH_Murata
designator L?, comment value 91nH  (hidden comment: Coil_0603_91nH)
LQW18 series Chip Inductor; Manufacturer: Murata; Manufacturer P/N: LQW18AN91NJ8ZD; Part: 91 nH, 5%tol.; Qmin: 33; Maximum DC Current: 520mA; Maximum DC Resistance: 540mOhms; ComponentLink1Description: Manufacturer; ComponentLink1URL: https://www.murata.com/en-eu; ComponentLink2Description: Datasheet; ComponentLink2URL: https://www.mouser.ca/datasheet/2/281/JELF243A_0102-961440.pdf; Family: Inductors&Transformers
footprint RESC0603(1608)_L (Chip Resistor, Body 1.6x0.8mm, IPC High Density)
footprint RESC0603(1608)_M (Chip Resistor, Body 1.6x0.8mm, IPC Low Density)
footprint RESC0603(1608)_N (Chip Resistor, Body 1.6x0.8mm, IPC Medium Density)
pins: 1, 2

## Coil_0603_100nH
designator L?  value 100nH  (hidden comment: Coil_0603_100nH)
0603HP series Chip Inductor; Manufacturer: Coilcraft Inc.; Manufacturer P/N: 0603HP-R10XGL; Part: 100 nH, 2%tol.; ComponentLink1Description: Manufacturer; ComponentLink1URL: http://www.coilcraft.com; ComponentLink2Description: Datasheet; ComponentLink2URL: http://www.coilcraft.com/pdfs/0603hp.pdf; Family: Inductors&Transformers
footprint RESC0603(1608)_L (Chip Resistor, Body 1.6x0.8mm, IPC High Density)
footprint RESC0603(1608)_M (Chip Resistor, Body 1.6x0.8mm, IPC Low Density)
footprint RESC0603(1608)_N (Chip Resistor, Body 1.6x0.8mm, IPC Medium Density)
pins: 1, 2

## Coil_0603_110nH
designator L?  value 110nH  (hidden comment: Coil_0603_110nH)
0603CS series Chip Inductor; Manufacturer: Coilcraft Inc.; Manufacturer P/N: 0603CS-R11XJL; Part: 110 nH, 5%tol.; ComponentLink1Description: Manufacturer; ComponentLink1URL: http://www.coilcraft.com; ComponentLink2Description: Datasheet; ComponentLink2URL: http://www.coilcraft.com/pdfs/0603cs.pdf; Family: Inductors&Transformers
footprint RESC0603(1608)_L (Chip Resistor, Body 1.6x0.8mm, IPC High Density)
footprint RESC0603(1608)_M (Chip Resistor, Body 1.6x0.8mm, IPC Low Density)
footprint RESC0603(1608)_N (Chip Resistor, Body 1.6x0.8mm, IPC Medium Density)
pins: 1, 2

## Coil_0603_120nH
designator L?  value 120nH  (hidden comment: Coil_0603_120nH)
0603CS series Chip Inductor; Manufacturer: Coilcraft Inc.; Manufacturer P/N: 0603CS-R12XJL; Part: 120 nH, 5%tol.; ComponentLink1Description: Manufacturer; ComponentLink1URL: http://www.coilcraft.com; ComponentLink2Description: Datasheet; ComponentLink2URL: http://www.coilcraft.com/pdfs/0603cs.pdf; Family: Inductors&Transformers
footprint RESC0603(1608)_L (Chip Resistor, Body 1.6x0.8mm, IPC High Density)
footprint RESC0603(1608)_M (Chip Resistor, Body 1.6x0.8mm, IPC Low Density)
footprint RESC0603(1608)_N (Chip Resistor, Body 1.6x0.8mm, IPC Medium Density)
pins: 1, 2

## Coil_0603_120nH_HP
designator L?  value 120nH  (hidden comment: Coil_0603_120nH_HP)
0603HP series Chip Inductor; Manufacturer: Coilcraft Inc.; Manufacturer P/N: 0603HP-R12XJLW; Part: 120 nH, 5%tol.; ComponentLink1Description: Manufacturer; ComponentLink1URL: http://www.coilcraft.com; ComponentLink2Description: Datasheet; ComponentLink2URL: http://www.coilcraft.com/pdfs/0603cs.pdf; Family: Inductors&Transformers
footprint RESC0603(1608)_L (Chip Resistor, Body 1.6x0.8mm, IPC High Density)
footprint RESC0603(1608)_M (Chip Resistor, Body 1.6x0.8mm, IPC Low Density)
footprint RESC0603(1608)_N (Chip Resistor, Body 1.6x0.8mm, IPC Medium Density)
pins: 1, 2

## Coil_0603_150nH
designator L?  value 150nH  (hidden comment: Coil_0603_150nH)
0603HP series Chip Inductor; Manufacturer: Coilcraft Inc.; Manufacturer P/N: 0603HP-R15XGL; Part: 150 nH, 2%tol.; ComponentLink1Description: Manufacturer; ComponentLink1URL: http://www.coilcraft.com; ComponentLink2Description: Datasheet; ComponentLink2URL: http://www.coilcraft.com/pdfs/0603hp.pdf; Family: Inductors&Transformers
footprint RESC0603(1608)_L (Chip Resistor, Body 1.6x0.8mm, IPC High Density)
footprint RESC0603(1608)_M (Chip Resistor, Body 1.6x0.8mm, IPC Low Density)
footprint RESC0603(1608)_N (Chip Resistor, Body 1.6x0.8mm, IPC Medium Density)
pins: 1, 2

## Coil_0603_160nH
designator L?  value 160nH  (hidden comment: Coil_0603_160nH)
LQW18 series Chip Inductor; Manufacturer: Murata; Manufacturer P/N: LQW18CNR16J00D; Part: 160 nH, 5%tol.; ComponentLink1Description: Manufacturer; ComponentLink2Description: Datasheet; Family: Inductors&Transformers
footprint RESC0603(1608)_L (Chip Resistor, Body 1.6x0.8mm, IPC High Density)
footprint RESC0603(1608)_M (Chip Resistor, Body 1.6x0.8mm, IPC Low Density)
footprint RESC0603(1608)_N (Chip Resistor, Body 1.6x0.8mm, IPC Medium Density)
pins: 1, 2

## Coil_0603_180nH
designator L?  value 180nH  (hidden comment: Coil_0603_180nH)
0603HP series Chip Inductor; Manufacturer: Coilcraft Inc.; Manufacturer P/N: 0603HP-R18XGL; Part: 180 nH, 2%tol.; ComponentLink1Description: Manufacturer; ComponentLink1URL: http://www.coilcraft.com; ComponentLink2Description: Datasheet; ComponentLink2URL: http://www.coilcraft.com/pdfs/0603hp.pdf; Family: Inductors&Transformers
footprint RESC0603(1608)_L (Chip Resistor, Body 1.6x0.8mm, IPC High Density)
footprint RESC0603(1608)_M (Chip Resistor, Body 1.6x0.8mm, IPC Low Density)
footprint RESC0603(1608)_N (Chip Resistor, Body 1.6x0.8mm, IPC Medium Density)
pins: 1, 2

## Coil_0603_200nH
designator L?  value 200nH  (hidden comment: Coil_0603_200nH)
0603HP series Chip Inductor; Manufacturer: Coilcraft Inc.; Manufacturer P/N: 0603HP-R20XGL; Part: 200 nH, 2%tol.; ComponentLink1Description: Manufacturer; ComponentLink1URL: http://www.coilcraft.com; ComponentLink2Description: Datasheet; ComponentLink2URL: http://www.coilcraft.com/pdfs/0603hp.pdf; Family: Inductors&Transformers
footprint RESC0603(1608)_L (Chip Resistor, Body 1.6x0.8mm, IPC High Density)
footprint RESC0603(1608)_M (Chip Resistor, Body 1.6x0.8mm, IPC Low Density)
footprint RESC0603(1608)_N (Chip Resistor, Body 1.6x0.8mm, IPC Medium Density)
pins: 1, 2

## Coil_0603_250nH
designator L?  value 250nH  (hidden comment: Coil_0603_250nH)
0603HP series Chip Inductor; Manufacturer: Coilcraft Inc.; Manufacturer P/N: 0603HP-R25XGLW; Part: 250 nH, 5%tol.; ComponentLink1Description: Manufacturer; ComponentLink1URL: http://www.coilcraft.com; ComponentLink2Description: Datasheet; ComponentLink2URL: http://www.coilcraft.com/pdfs/0603hp.pdf; Family: Inductors&Transformers
footprint RESC0603(1608)_L (Chip Resistor, Body 1.6x0.8mm, IPC High Density)
footprint RESC0603(1608)_M (Chip Resistor, Body 1.6x0.8mm, IPC Low Density)
footprint RESC0603(1608)_N (Chip Resistor, Body 1.6x0.8mm, IPC Medium Density)
pins: 1, 2

## Coil_0603_270nH
designator L?  value 270nH  (hidden comment: Coil_0603_270nH)
0603HP series Chip Inductor; Manufacturer: Coilcraft Inc.; Manufacturer P/N: 0603HP-R27XGL; Part: 270 nH, 2%tol.; ComponentLink1Description: Manufacturer; ComponentLink1URL: http://www.coilcraft.com; ComponentLink2Description: Datasheet; ComponentLink2URL: http://www.coilcraft.com/pdfs/0603hp.pdf; Family: Inductors&Transformers
footprint RESC0603(1608)_L (Chip Resistor, Body 1.6x0.8mm, IPC High Density)
footprint RESC0603(1608)_M (Chip Resistor, Body 1.6x0.8mm, IPC Low Density)
footprint RESC0603(1608)_N (Chip Resistor, Body 1.6x0.8mm, IPC Medium Density)
pins: 1, 2

## Coil_0603_300nH
designator L?  value 300nH  (hidden comment: Coil_0603_300nH)
LQW18 series Chip Inductor; Manufacturer: Murata; Manufacturer P/N: LQW18ANR30J8ZD; Part: 300 nH, 5%tol.; ComponentLink1Description: Manufacturer; ComponentLink2Description: Datasheet; Family: Inductors&Transformers
footprint RESC0603(1608)_L (Chip Resistor, Body 1.6x0.8mm, IPC High Density)
footprint RESC0603(1608)_M (Chip Resistor, Body 1.6x0.8mm, IPC Low Density)
footprint RESC0603(1608)_N (Chip Resistor, Body 1.6x0.8mm, IPC Medium Density)
pins: 1, 2

## Coil_0603_330nH
designator L?  value 330nH  (hidden comment: Coil_0603_330nH)
0603 inductor; Manufacturer: Taiyo Yuden; Manufacturer P/N: HK1608R33J-T; Part: 330 nH, 5%tol.; ComponentLink1Description: Manufacturer; ComponentLink2Description: Datasheet; Family: Inductors&Transformers
footprint RESC0603(1608)_L (Chip Resistor, Body 1.6x0.8mm, IPC High Density)
footprint RESC0603(1608)_M (Chip Resistor, Body 1.6x0.8mm, IPC Low Density)
footprint RESC0603(1608)_N (Chip Resistor, Body 1.6x0.8mm, IPC Medium Density)
pins: 1, 2

## Coil_0603_390nH
designator L?  value 390nH  (hidden comment: Coil_0603_390nH)
0603CS series Chip Inductor; Manufacturer: Coilcraft Inc.; Manufacturer P/N: 0603CS-R39XJL; Part: 390 nH, 5%tol.; ComponentLink1Description: Manufacturer; ComponentLink1URL: http://www.coilcraft.com; ComponentLink2Description: Datasheet; ComponentLink2URL: http://www.coilcraft.com/pdfs/0603cs.pdf; Family: Inductors&Transformers
footprint RESC0603(1608)_L (Chip Resistor, Body 1.6x0.8mm, IPC High Density)
footprint RESC0603(1608)_M (Chip Resistor, Body 1.6x0.8mm, IPC Low Density)
footprint RESC0603(1608)_N (Chip Resistor, Body 1.6x0.8mm, IPC Medium Density)
pins: 1, 2

## Coil_0603_420nH
designator L?  value 420nH  (hidden comment: Coil_0603_420nH)
0603AF series Chip Inductor; Manufacturer: Coilcraft Inc.; Manufacturer P/N: 0603AF-421XJEU; Part: 420 nH, 5%tol.; ComponentLink1Description: Manufacturer; ComponentLink1URL: http://www.coilcraft.com; ComponentLink2Description: Datasheet; ComponentLink2URL: http://www.coilcraft.com/pdfs/0603hp.pdf; Family: Inductors&Transformers
footprint RESC0603(1608)_L (Chip Resistor, Body 1.6x0.8mm, IPC High Density)
footprint RESC0603(1608)_M (Chip Resistor, Body 1.6x0.8mm, IPC Low Density)
footprint RESC0603(1608)_N (Chip Resistor, Body 1.6x0.8mm, IPC Medium Density)
pins: 1, 2

## Coil_0603_470nH
designator L?  value 470nH  (hidden comment: Coil_0603_470nH)
0603LS series Chip Inductor; Manufacturer: Coilcraft Inc.; Manufacturer P/N: 0603LS-471XGL; Part: 470 nH, 2%tol.; ComponentLink1Description: Manufacturer; ComponentLink1URL: http://www.coilcraft.com; ComponentLink2Description: Datasheet; ComponentLink2URL: http://www.coilcraft.com/pdfs/0603hp.pdf; Family: Inductors&Transformers
footprint RESC0603(1608)_L (Chip Resistor, Body 1.6x0.8mm, IPC High Density)
footprint RESC0603(1608)_M (Chip Resistor, Body 1.6x0.8mm, IPC Low Density)
footprint RESC0603(1608)_N (Chip Resistor, Body 1.6x0.8mm, IPC Medium Density)
pins: 1, 2

## Coil_0603_510nH
designator L?  value 510nH  (hidden comment: Coil_0603_510nH)
0603HL series Chip Inductor; Manufacturer: Coilcraft Inc.; Manufacturer P/N: 0603HL-511XJRB; Part: 510 nH, 5%tol.; ComponentLink1Description: Manufacturer; ComponentLink1URL: http://www.coilcraft.com; ComponentLink2Description: Datasheet; Family: Inductors&Transformers
footprint RESC0603(1608)_L (Chip Resistor, Body 1.6x0.8mm, IPC High Density)
footprint RESC0603(1608)_M (Chip Resistor, Body 1.6x0.8mm, IPC Low Density)
footprint RESC0603(1608)_N (Chip Resistor, Body 1.6x0.8mm, IPC Medium Density)
pins: 1, 2

## Coil_0603_560nH
designator L?  value 560nH  (hidden comment: Coil_0603_560nH)
0603LS series Chip Inductor; Manufacturer: Coilcraft Inc.; Manufacturer P/N: 0603LS-561XGL; Part: 560 nH, 2%tol.; ComponentLink1Description: Manufacturer; ComponentLink1URL: http://www.coilcraft.com; ComponentLink2Description: Datasheet; ComponentLink2URL: http://www.coilcraft.com/pdfs/0603hp.pdf; Family: Inductors&Transformers
footprint RESC0603(1608)_L (Chip Resistor, Body 1.6x0.8mm, IPC High Density)
footprint RESC0603(1608)_M (Chip Resistor, Body 1.6x0.8mm, IPC Low Density)
footprint RESC0603(1608)_N (Chip Resistor, Body 1.6x0.8mm, IPC Medium Density)
pins: 1, 2

## Coil_0603_680nH
designator L?  value 680nH  (hidden comment: Coil_0603_680nH)
0603 inductor; Manufacturer: Taiyo Yuden; Manufacturer P/N: LK1608R68M-T; Part: 680 nH, 20%tol.; ComponentLink1Description: Manufacturer; ComponentLink2Description: Datasheet; Family: Inductors&Transformers
footprint RESC0603(1608)_L (Chip Resistor, Body 1.6x0.8mm, IPC High Density)
footprint RESC0603(1608)_M (Chip Resistor, Body 1.6x0.8mm, IPC Low Density)
footprint RESC0603(1608)_N (Chip Resistor, Body 1.6x0.8mm, IPC Medium Density)
pins: 1, 2

## Coil_0603_780nH
designator L?  value 780nH  (hidden comment: Coil_0603_780nH)
0603LS series Chip Inductor; Manufacturer: Coilcraft Inc.; Manufacturer P/N: 0603LS-781XGL; Part: 780 nH, 2%tol.; ComponentLink1Description: Manufacturer; ComponentLink1URL: http://www.coilcraft.com; ComponentLink2Description: Datasheet; ComponentLink2URL: http://www.coilcraft.com/pdfs/0603hp.pdf; Family: Inductors&Transformers
footprint RESC0603(1608)_L (Chip Resistor, Body 1.6x0.8mm, IPC High Density)
footprint RESC0603(1608)_M (Chip Resistor, Body 1.6x0.8mm, IPC Low Density)
footprint RESC0603(1608)_N (Chip Resistor, Body 1.6x0.8mm, IPC Medium Density)
pins: 1, 2

## Coil_0603_820nH
designator L?  value 820 nH  (hidden comment: Coil_0603_820nH)
LQM series Chip Inductor; Manufacturer: Murata; Manufacturer P/N: LQM18NNR82K00D; Part: 820 nH, 10% tol.; ComponentLink1Description: Manufacturer; ComponentLink1URL: http://www.murata.com/; ComponentLink2Description: Datasheet; Family: Inductors&Transformers
footprint RESC0603(1608)_L (Chip Resistor, Body 1.6x0.8mm, IPC High Density)
footprint RESC0603(1608)_M (Chip Resistor, Body 1.6x0.8mm, IPC Low Density)
footprint RESC0603(1608)_N (Chip Resistor, Body 1.6x0.8mm, IPC Medium Density)
pins: 1, 2

## Coil_0805_2.7uH
designator L?  value 2.7uH  (hidden comment: Coil_0805_2.7uH)
0805LS series Chip Inductor; Manufacturer: Coilcraft Inc.; Manufacturer P/N: 0805LS-272XGL; Part: 2.7 uH, 2%tol.; ComponentLink1Description: Manufacturer; ComponentLink1URL: http://www.coilcraft.com; ComponentLink2Description: Datasheet; ComponentLink2URL: http://www.coilcraft.com/pdfs/0805cs.pdf; Family: Inductors&Transformers
footprint RESC0805(2012)_L (Chip Resistor, Body 2.0x1.3mm, IPC High Density)
footprint RESC0805(2012)_M (Chip Resistor, Body 2.0x1.3mm, IPC Low Density)
footprint RESC0805(2012)_N (Chip Resistor, Body 2.0x1.3mm, IPC Medium Density)
pins: 1, 2

## Coil_0805_8.2nH
designator L?  value 8.2nH  (hidden comment: Coil_0805_8.2nH)
0805 series Chip Inductor 5%; Manufacturer: Johanson Dielectric; Manufacturer P/N: L-15W8N2JV4E; Part: 8.2 nH, 5%tol.; ComponentLink1Description: Manufacturer; ComponentLink2Description: Datasheet; Family: Inductors&Transformers
footprint RESC0805(2012)_L (Chip Resistor, Body 2.0x1.3mm, IPC High Density)
footprint RESC0805(2012)_M (Chip Resistor, Body 2.0x1.3mm, IPC Low Density)
footprint RESC0805(2012)_N (Chip Resistor, Body 2.0x1.3mm, IPC Medium Density)
pins: 1, 2

## Coil_0805_10uH
designator L?  value 10uH  (hidden comment: Coil_0805_10uH)
0805LS series Chip Inductor; Manufacturer: Coilcraft Inc.; Manufacturer P/N: 0805LS-103XJL; Part: 10 uH, 5%tol.; ComponentLink1Description: Manufacturer; ComponentLink1URL: http://www.coilcraft.com; ComponentLink2Description: Datasheet; ComponentLink2URL: http://www.coilcraft.com/pdfs/0805cs.pdf; Family: Inductors&Transformers
footprint RESC0805(2012)_L (Chip Resistor, Body 2.0x1.3mm, IPC High Density)
footprint RESC0805(2012)_M (Chip Resistor, Body 2.0x1.3mm, IPC Low Density)
footprint RESC0805(2012)_N (Chip Resistor, Body 2.0x1.3mm, IPC Medium Density)
pins: 1, 2

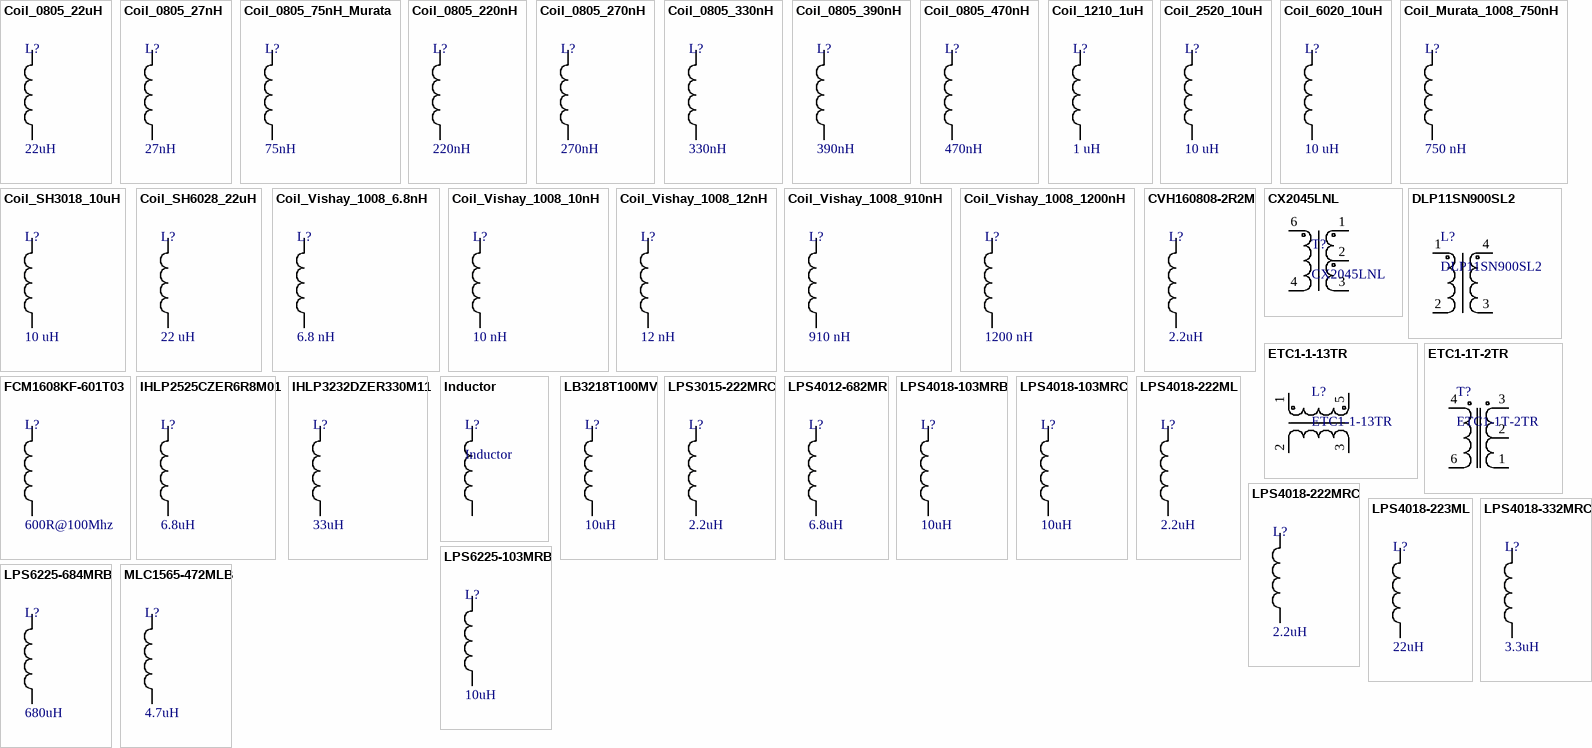
[diagram p2: symbols Coil_0805_22uH to MLC1565-472MLB]

## Coil_0805_22uH
designator L?  value 22uH  (hidden comment: Coil_0805_22uH)
0805LS series Chip Inductor; Manufacturer: Coilcraft Inc.; Manufacturer P/N: 0805LS-223XGL; Part: 22uH, 2%tol.; ComponentLink1Description: Manufacturer; ComponentLink1URL: http://www.coilcraft.com; ComponentLink2Description: Datasheet; ComponentLink2URL: http://www.coilcraft.com/pdfs/0805cs.pdf; Family: Inductors&Transformers
footprint RESC0805(2012)_L (Chip Resistor, Body 2.0x1.3mm, IPC High Density)
footprint RESC0805(2012)_M (Chip Resistor, Body 2.0x1.3mm, IPC Low Density)
footprint RESC0805(2012)_N (Chip Resistor, Body 2.0x1.3mm, IPC Medium Density)
pins: 1, 2

## Coil_0805_27nH
designator L?  value 27nH  (hidden comment: Coil_0805_27nH)
0805 series Chip Inductor 2%; Manufacturer: Johanson Dielectric; Manufacturer P/N: L-15W27NGV4E; Part: 27 nH, 2%tol.; ComponentLink1Description: Manufacturer; ComponentLink2Description: Datasheet; Family: Inductors&Transformers
footprint RESC0805(2012)_L (Chip Resistor, Body 2.0x1.3mm, IPC High Density)
footprint RESC0805(2012)_M (Chip Resistor, Body 2.0x1.3mm, IPC Low Density)
footprint RESC0805(2012)_N (Chip Resistor, Body 2.0x1.3mm, IPC Medium Density)
pins: 1, 2

## Coil_0805_75nH_Murata
designator L?  value 75nH  (hidden comment: Coil_0805_75nH_Murata)
0805 series Chip Inductor 2%; Manufacturer: Murata; Manufacturer P/N: LQW2BAN75NG00; Part: 75 nH, 2%tol.; ComponentLink1Description: Manufacturer; ComponentLink2Description: Datasheet; Family: Inductors&Transformers
footprint RESC0805(2012)_L (Chip Resistor, Body 2.0x1.3mm, IPC High Density)
footprint RESC0805(2012)_M (Chip Resistor, Body 2.0x1.3mm, IPC Low Density)
footprint RESC0805(2012)_N (Chip Resistor, Body 2.0x1.3mm, IPC Medium Density)
pins: 1, 2